# EAGLE library part 10R-N (library resistor-dil)
DIL RESISTOR
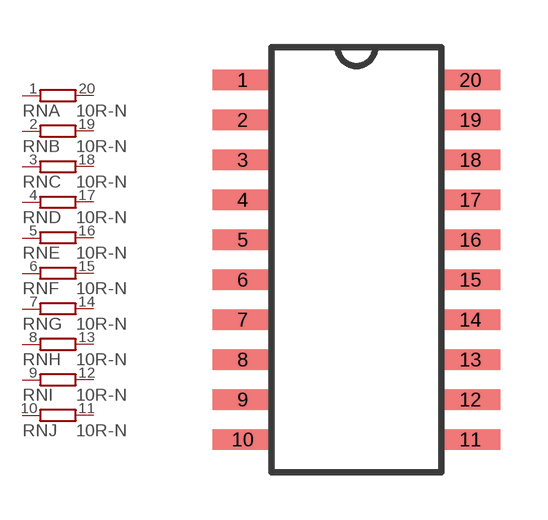
[diagram p10: symbol with the pads of SOMC20; footprint SOMC20]

Designator prefix RN; gates A=R1NV B=R1NV C=R1NV D=R1NV E=R1NV F=R1NV G=R1NV H=R1NV I=R1NV J=R1NV

## 10R-NSOMC  [SOMC20]
1  A:1  pas
2  B:1  pas
3  C:1  pas
4  D:1  pas
5  E:1  pas
6  F:1  pas
7  G:1  pas
8  H:1  pas
9  I:1  pas
10  J:1  pas
11  J:2  pas
12  I:2  pas
13  H:2  pas
14  G:2  pas
15  F:2  pas
16  E:2  pas
17  D:2  pas
18  C:2  pas
19  B:2  pas
20  A:2  pas

## Footprint SOMC20 (pad centres in mm)
SOMC 20 Auto generated by make-symbol-device-package-bsdl.ulp Rev. 12 Source: www.vishay.com/docs/31508/somc.pdf
smd 1.91 x 0.64: 1 -3.62,5.715; 2 -3.62,4.445; 3 -3.62,3.175; 4 -3.62,1.905; 5 -3.62,0.635; 6 -3.62,-0.635; 7 -3.62,-1.905; 8 -3.62,-3.175; 9 -3.62,-4.445; 10 -3.62,-5.715; 11 3.62,-5.715; 12 3.62,-4.445; 13 3.62,-3.175; 14 3.62,-1.905; 15 3.62,-0.635; 16 3.62,0.635; 17 3.62,1.905; 18 3.62,3.175; 19 3.62,4.445; 20 3.62,5.715